# Altium footprint library WCAP-FTBE.PcbLib: 21 footprints (part 1 of 2)
Each footprint in its own frame and in the unit in brackets; x right, y up, seen from the top. Pads: shape width x height; smd on the part's side, far side on the other; paste and mask are expansions set on the pad; w line width, h text height; cw(c..) or ccw(c..) is an arc to the next point about the centre after c.
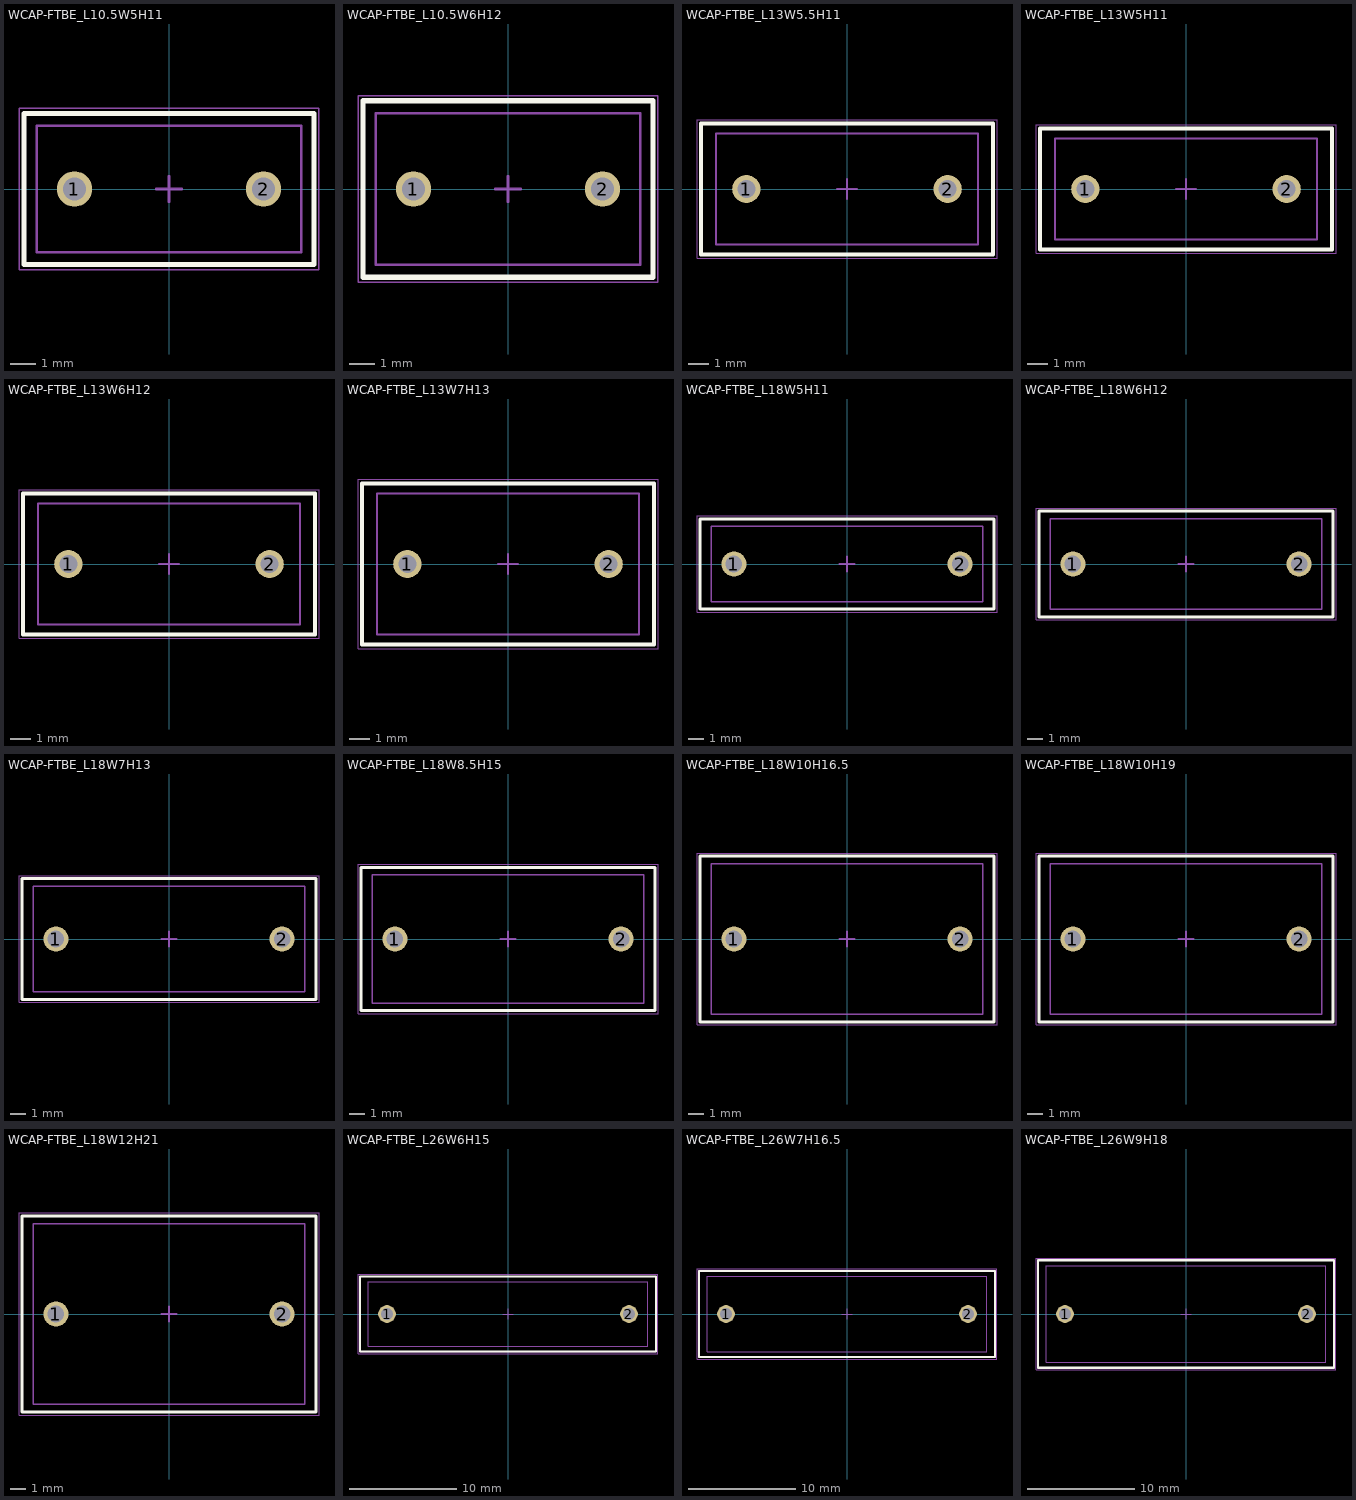
[diagram p0: the footprints below, top view; thin cyan lines are the x and y axes]

## WCAP-FTBE_L10.5W5H11 [mm] "THT Film Capacitors, body 10.5x5mm"
height 11
pads (2):
  round 1.4 hole 0.9: 1(-3.75,0) 2(3.75,0)
Top Overlay:
  lines w0.2: -5.75,-3 5.75,-3 5.75,3 -5.75,3 -5.75,-3
Top Assembly:
  lines w0.1: -5.75,-3 5.75,-3 5.75,3 -5.75,3 -5.75,-3
Top Designator:
  text ".Designator" at -3.647,-0.357 h1
Top 3D Body:
  lines w0.1: -5.25,-2.5 5.25,-2.5 5.25,2.5 -5.25,2.5 -5.25,-2.5
Top Courtyard:
  lines w0.05: -5.95,-3.2 5.95,-3.2 5.95,3.2 -5.95,3.2 -5.95,-3.2
Top Component Center:
  lines w0.1: -0.5,0 0.5,0 ; 0,-0.5 0,0.5
3D body "7.5x10.5x5x11.stp": height 11.1, standoff -3.9, extent -5.25,-2.501 5.25,2.5

## WCAP-FTBE_L10.5W6H12 [mm] "THT Film Capacitors, body 10.5x6mm"
height 12
pads (2):
  round 1.4 hole 0.9: 1(-3.75,0) 2(3.75,0)
Top Overlay:
  lines w0.2: -5.75,-3.5 -5.75,3.5 5.75,3.5 5.75,-3.5 -5.75,-3.5
Top Assembly:
  lines w0.1: -5.75,-3.5 -5.75,3.5 5.75,3.5 5.75,-3.5 -5.75,-3.5
Top Designator:
  text ".Designator" at -3.647,-0.357 h1
Top 3D Body:
  lines w0.1: -5.25,-3 5.25,-3 5.25,3 -5.25,3 -5.25,-3
Top Courtyard:
  lines w0.05: -5.95,-3.7 5.95,-3.7 5.95,3.7 -5.95,3.7 -5.95,-3.7
Top Component Center:
  lines w0.1: -0.5,0 0.5,0 ; 0,-0.5 0,0.5
3D body "7,5x10,5x6x12.stp": height 12.1, standoff -3.9, extent -5.25,-3.001 5.25,3

## WCAP-FTBE_L13W5.5H11 [mm] "THT Film Capacitors, body 13x5.5mm"
height 11
pads (2):
  round 1.4 hole 0.9: 1(-5,0) 2(5,0)
Top Overlay:
  lines w0.2: -7.25,-3.25 7.25,-3.25 7.25,3.25 -7.25,3.25 -7.25,-3.25
Top Assembly:
  lines w0.1: -7.25,-3.25 7.25,-3.25 7.25,3.25 -7.25,3.25 -7.25,-3.25
Top Designator:
  text ".Designator" at -3.647,-0.357 h1
Top 3D Body:
  lines w0.1: -6.5,-2.75 -6.5,2.75 6.5,2.75 6.5,-2.75 -6.5,-2.75
Top Courtyard:
  lines w0.05: -7.45,-3.45 -7.45,3.45 7.45,3.45 7.45,-3.45 -7.45,-3.45
Top Component Center:
  lines w0.1: -0.5,0 0.5,0 ; 0,-0.5 0,0.5
3D body "10x13x5,5x11.stp": height 11.1, standoff -3.9, extent -6.5,-2.751 6.5,2.75

## WCAP-FTBE_L13W5H11 [mm] "THT Film Capacitors, body 13x5mm"
height 11
pads (2):
  round 1.4 hole 0.9: 1(-5,0) 2(5,0)
Top Overlay:
  lines w0.2: -7.25,-3 -7.25,3 7.25,3 7.25,-3 -7.25,-3
Top Assembly:
  lines w0.1: -7.25,-3 -7.25,3 7.25,3 7.25,-3 -7.25,-3
Top Designator:
  text ".Designator" at -3.647,-0.357 h1
Top 3D Body:
  lines w0.1: -6.5,-2.5 6.5,-2.5 6.5,2.5 -6.5,2.5 -6.5,-2.5
Top Courtyard:
  lines w0.05: -7.45,-3.2 -7.45,3.2 7.45,3.2 7.45,-3.2 -7.45,-3.2
Top Component Center:
  lines w0.1: -0.5,0 0.5,0 ; 0,-0.5 0,0.5
3D body "10x13x5x11.stp": height 11.1, standoff -3.9, extent -6.5,-2.501 6.5,2.5

## WCAP-FTBE_L13W6H12 [mm] "THT Film Capacitors, body 13x6mm"
height 12
pads (2):
  round 1.4 hole 0.9: 1(-5,0) 2(5,0)
Top Overlay:
  lines w0.2: -7.25,-3.5 7.25,-3.5 7.25,3.5 -7.25,3.5 -7.25,-3.5
Top Assembly:
  lines w0.1: -7.25,-3.5 7.25,-3.5 7.25,3.5 -7.25,3.5 -7.25,-3.5
Top Designator:
  text ".Designator" at -3.647,-0.357 h1
Top 3D Body:
  lines w0.1: -6.5,-3 -6.5,3 6.5,3 6.5,-3 -6.5,-3
Top Courtyard:
  lines w0.05: -7.45,-3.7 7.45,-3.7 7.45,3.7 -7.45,3.7 -7.45,-3.7
Top Component Center:
  lines w0.1: -0.5,0 0.5,0 ; 0,-0.5 0,0.5
3D body "10x13x6x12.stp": height 12.05, standoff -3.95, extent -6.5,-3.001 6.5,3

## WCAP-FTBE_L13W7H13 [mm] "THT Film Capacitors, body 13x7mm"
height 13
pads (2):
  round 1.4 hole 0.9: 1(-5,0) 2(5,0)
Top Overlay:
  lines w0.2: -7.25,-4 7.25,-4 7.25,4 -7.25,4 -7.25,-4
Top Assembly:
  lines w0.1: -7.25,-4 7.25,-4 7.25,4 -7.25,4 -7.25,-4
Top Designator:
  text ".Designator" at -3.647,-0.357 h1
Top 3D Body:
  lines w0.1: -6.5,-3.5 -6.5,3.5 6.5,3.5 6.5,-3.5 -6.5,-3.5
Top Courtyard:
  lines w0.05: -7.45,-4.2 7.45,-4.2 7.45,4.2 -7.45,4.2 -7.45,-4.2
Top Component Center:
  lines w0.1: -0.5,0 0.5,0 ; 0,-0.5 0,0.5
3D body "10x13x7x13.stp": height 13.05, standoff -3.95, extent -6.5,-3.501 6.5,3.5

## WCAP-FTBE_L18W5H11 [mm] "THT Film Capacitors, body 18x5mm"
height 11
pads (2):
  round 1.65 hole 1.1: 1(-7.5,0) 2(7.5,0)
Top Overlay:
  lines w0.2: -9.75,-3 9.75,-3 9.75,3 -9.75,3 -9.75,-3
Top Assembly:
  lines w0.1: -9.75,-3 9.75,-3 9.75,3 -9.75,3 -9.75,-3
Top Designator:
  text ".Designator" at -3.647,-0.357 h1
Top 3D Body:
  lines w0.1: -9,-2.5 -9,2.5 9,2.5 9,-2.5 -9,-2.5
Top Courtyard:
  lines w0.05: -9.95,-3.2 9.95,-3.2 9.95,3.2 -9.95,3.2 -9.95,-3.2
Top Component Center:
  lines w0.1: -0.5,0 0.5,0 ; 0,-0.5 0,0.5
3D body "15x18x5x11.stp": height 11.1, standoff -3.9, extent -9,-2.501 9,2.5

## WCAP-FTBE_L18W6H12 [mm] "THT Film Capacitors, body 18x6mm"
height 12
pads (2):
  round 1.65 hole 1.1: 1(-7.5,0) 2(7.5,0)
Top Overlay:
  lines w0.2: -9.75,-3.5 9.75,-3.5 9.75,3.5 -9.75,3.5 -9.75,-3.5
Top Assembly:
  lines w0.1: -9.75,-3.5 9.75,-3.5 9.75,3.5 -9.75,3.5 -9.75,-3.5
Top Designator:
  text ".Designator" at -3.647,-0.357 h1
Top 3D Body:
  lines w0.1: -9,-3 9,-3 9,3 -9,3 -9,-3
Top Courtyard:
  lines w0.05: -9.95,-3.7 9.95,-3.7 9.95,3.7 -9.95,3.7 -9.95,-3.7
Top Component Center:
  lines w0.1: -0.5,0 0.5,0 ; 0,-0.5 0,0.5
3D body "15x18x6x12.stp": height 12.1, standoff -3.9, extent -9,-3.001 9,3

## WCAP-FTBE_L18W7H13 [mm] "THT Film Capacitors, body 18x7mm"
height 13
pads (2):
  round 1.65 hole 1.1: 1(-7.5,0) 2(7.5,0)
Top Overlay:
  lines w0.2: -9.75,-4 -9.75,4 9.75,4 9.75,-4 -9.75,-4
Top Assembly:
  lines w0.1: -9.75,-4 -9.75,4 9.75,4 9.75,-4 -9.75,-4
Top Designator:
  text ".Designator" at -3.647,-0.357 h1
Top 3D Body:
  lines w0.1: -9,-3.5 -9,3.5 9,3.5 9,-3.5 -9,-3.5
Top Courtyard:
  lines w0.05: -9.95,-4.2 -9.95,4.2 9.95,4.2 9.95,-4.2 -9.95,-4.2
Top Component Center:
  lines w0.1: -0.5,0 0.5,0 ; 0,-0.5 0,0.5
3D body "15x18x7x13.stp": height 13.1, standoff -3.9, extent -9,-3.501 9,3.5

## WCAP-FTBE_L18W8.5H15 [mm] "THT Film Capacitors, body 18x8.5mm"
height 15
pads (2):
  round 1.65 hole 1.1: 1(-7.5,0) 2(7.5,0)
Top Overlay:
  lines w0.2: -9.75,-4.75 9.75,-4.75 9.75,4.75 -9.75,4.75 -9.75,-4.75
Top Assembly:
  lines w0.1: -9.75,-4.75 9.75,-4.75 9.75,4.75 -9.75,4.75 -9.75,-4.75
Top Designator:
  text ".Designator" at -3.647,-0.357 h1
Top 3D Body:
  lines w0.1: -9,-4.25 9,-4.25 9,4.25 -9,4.25 -9,-4.25
Top Courtyard:
  lines w0.05: -9.95,-4.95 9.95,-4.95 9.95,4.95 -9.95,4.95 -9.95,-4.95
Top Component Center:
  lines w0.1: -0.5,0 0.5,0 ; 0,-0.5 0,0.5
3D body "15x18x8,5x15.stp": height 15.1, standoff -3.9, extent -9,-4.251 9,4.25

## WCAP-FTBE_L18W10H16.5 [mm] "THT Film Capacitors, body 18x10mm"
height 16.5
pads (2):
  round 1.65 hole 1.1: 1(-7.5,0) 2(7.5,0)
Top Overlay:
  lines w0.2: -9.75,-5.5 -9.75,5.5 9.75,5.5 9.75,-5.5 -9.75,-5.5
Top Assembly:
  lines w0.1: -9.75,-5.5 -9.75,5.5 9.75,5.5 9.75,-5.5 -9.75,-5.5
Top Designator:
  text ".Designator" at -3.647,-0.357 h1
Top 3D Body:
  lines w0.1: -9,-5 -9,5 9,5 9,-5 -9,-5
Top Courtyard:
  lines w0.05: -9.95,-5.7 -9.95,5.7 9.95,5.7 9.95,-5.7 -9.95,-5.7
Top Component Center:
  lines w0.1: -0.5,0 0.5,0 ; 0,-0.5 0,0.5
3D body "15x18x10x16,5.stp": height 16.55, standoff -3.95, extent -9,-5.001 9,5

## WCAP-FTBE_L18W10H19 [mm] "THT Film Capacitors, body 18x10mm"
height 19
pads (2):
  round 1.65 hole 1.1: 1(-7.5,0) 2(7.5,0)
Top Overlay:
  lines w0.2: -9.75,-5.5 9.75,-5.5 9.75,5.5 -9.75,5.5 -9.75,-5.5
Top Assembly:
  lines w0.1: -9.75,-5.5 9.75,-5.5 9.75,5.5 -9.75,5.5 -9.75,-5.5
Top Designator:
  text ".Designator" at -3.647,-0.357 h1
Top 3D Body:
  lines w0.1: -9,-5 9,-5 9,5 -9,5 -9,-5
Top Courtyard:
  lines w0.05: -9.95,-5.7 9.95,-5.7 9.95,5.7 -9.95,5.7 -9.95,-5.7
Top Component Center:
  lines w0.1: -0.5,0 0.5,0 ; 0,-0.5 0,0.5
3D body "15x18x10x19.stp": height 19.1, standoff -3.9, extent -9,-5.001 9,5

## WCAP-FTBE_L18W12H21 [mm] "THT Film Capacitors, body 18x12mm"
height 21
pads (2):
  round 1.65 hole 1.1: 1(-7.5,0) 2(7.5,0)
Top Overlay:
  lines w0.2: -9.75,-6.5 9.75,-6.5 9.75,6.5 -9.75,6.5 -9.75,-6.5
Top Assembly:
  lines w0.1: -9.75,-6.5 9.75,-6.5 9.75,6.5 -9.75,6.5 -9.75,-6.5
Top Designator:
  text ".Designator" at -3.647,-0.357 h1
Top 3D Body:
  lines w0.1: -9,-6 9,-6 9,6 -9,6 -9,-6
Top Courtyard:
  lines w0.05: -9.95,-6.7 9.95,-6.7 9.95,6.7 -9.95,6.7 -9.95,-6.7
Top Component Center:
  lines w0.1: -0.5,0 0.5,0 ; 0,-0.5 0,0.5
3D body "15x18x12x21.stp": height 21.2, standoff -3.8, extent -9,-6.001 9,6

## WCAP-FTBE_L26W6H15 [mm] "THT Film Capacitors, body 26x6mm"
height 15
pads (2):
  round 1.65 hole 1.1: 1(-11.25,0) 2(11.25,0)
Top Overlay:
  lines w0.2: -13.75,-3.5 13.75,-3.5 13.75,3.5 -13.75,3.5 -13.75,-3.5
Top Assembly:
  lines w0.1: -13.75,-3.5 13.75,-3.5 13.75,3.5 -13.75,3.5 -13.75,-3.5
Top Designator:
  text ".Designator" at -3.647,-0.357 h1
Top 3D Body:
  lines w0.1: -13,-3 13,-3 13,3 -13,3 -13,-3
Top Courtyard:
  lines w0.05: -13.95,-3.7 13.95,-3.7 13.95,3.7 -13.95,3.7 -13.95,-3.7
Top Component Center:
  lines w0.1: -0.5,0 0.5,0 ; 0,-0.5 0,0.5
3D body "22,5x26x6x15.stp": height 15.1, standoff -3.9, extent -13,-3.001 13,3

## WCAP-FTBE_L26W7H16.5 [mm] "THT Film Capacitors, body 26x7mm"
height 16.5
pads (2):
  round 1.65 hole 1.1: 1(-11.25,0) 2(11.25,0)
Top Overlay:
  lines w0.2: -13.75,-4 13.75,-4 13.75,4 -13.75,4 -13.75,-4
Top Assembly:
  lines w0.2: -13.75,-4 13.75,-4 13.75,4 -13.75,4 -13.75,-4
Top Designator:
  text ".Designator" at -3.647,-0.357 h1
Top 3D Body:
  lines w0.1: -13,-3.5 -13,3.5 13,3.5 13,-3.5 -13,-3.5
Top Courtyard:
  lines w0.05: -13.95,-4.2 13.95,-4.2 13.95,4.2 -13.95,4.2 -13.95,-4.2
Top Component Center:
  lines w0.1: -0.5,0 0.5,0 ; 0,-0.5 0,0.5
3D body "22,5x26x7x16,5.stp": height 16.6, standoff -3.9, extent -13,-3.501 13,3.5

## WCAP-FTBE_L26W9H18 [mm] "THT Film Capacitors, body 26x9mm"
height 18
pads (2):
  round 1.65 hole 1.1: 1(-11.25,0) 2(11.25,0)
Top Overlay:
  lines w0.2: -13.75,-5 -13.75,5 13.75,5 13.75,-5 -13.75,-5
Top Assembly:
  lines w0.1: -13.75,-5 -13.75,5 13.75,5 13.75,-5 -13.75,-5
Top Designator:
  text ".Designator" at -3.647,-0.357 h1
Top 3D Body:
  lines w0.1: -13,-4.5 13,-4.5 13,4.5 -13,4.5 -13,-4.5
Top Courtyard:
  lines w0.05: -13.95,-5.2 -13.95,5.2 13.95,5.2 13.95,-5.2 -13.95,-5.2
Top Component Center:
  lines w0.1: -0.5,0 0.5,0 ; 0,-0.5 0,0.5
3D body "22,5x26x9x18.stp": height 18.1, standoff -3.9, extent -13,-4.501 13,4.5